# Altium schematic symbol library Schlib1.SchLib: 5 symbols
Pins are listed as number, name and electrical type; pins without a type are passive.

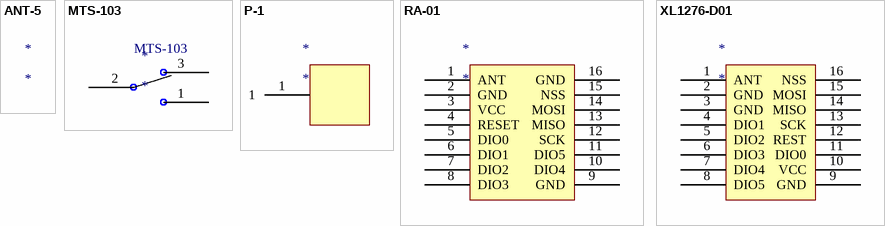
[diagram p0: symbols ANT-5 to XL1276-D01]

## ANT-5
designator *

## MTS-103
designator *
footprint MTS-103
pins: 1, 2, 3

## P-1
designator *
pins: 1

## RA-01
designator *
pins: 1 ANT, 2 GND, 3 VCC, 4 RESET, 5 DIO0, 6 DIO1, 7 DIO2, 8 DIO3, 9 GND, 10 DIO4, 11 DIO5, 12 SCK, 13 MISO, 14 MOSI, 15 NSS, 16 GND

## XL1276-D01
designator *
footprint XL1278-DO1
pins: 1 ANT, 2 GND, 3 GND, 4 DIO1, 5 DIO2, 6 DIO3, 7 DIO4, 8 DIO5, 9 GND, 10 VCC, 11 DIO0, 12 REST, 13 SCK, 14 MISO, 15 MOSI, 16 NSS